# EAGLE library part WM8731 (library Oles komponentbibliotek)
Low power stereo CODEC with an integrated headphone driver.
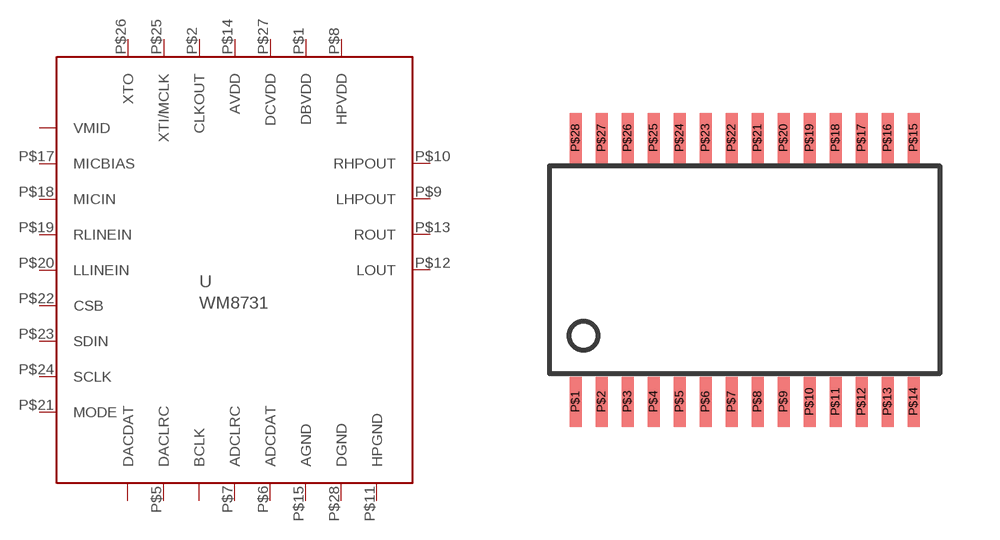
[diagram p54: symbol with the pads of SSOP28; footprint SSOP28]

Designator prefix -

## WM8731  [SSOP28]
P$1  DBVDD  pwr
P$2  CLKOUT  out
P$3  BCLK
P$4  DACDAT  in
P$5  DACLRC
P$6  ADCDAT  out
P$7  ADCLRC
P$8  HPVDD  pwr
P$9  LHPOUT  out
P$10  RHPOUT  out
P$11  HPGND  pwr
P$12  LOUT  out
P$13  ROUT  out
P$14  AVDD  pwr
P$15  AGND  pwr
P$16  VMID  pwr
P$17  MICBIAS  in
P$18  MICIN  in
P$19  RLINEIN  in
P$20  LLINEIN  in
P$21  MODE  in
P$22  CSB  in
P$23  SDIN
P$24  SCLK
P$25  XTI/MCLK  in
P$26  XTO  out
P$27  DCVDD  pwr
P$28  DGND  pwr

## Footprint SSOP28 (pad centres in mm)
smd 0.3 x 1.25: P$1 -4.55,-3.3; P$2 -3.9,-3.3; P$3 -3.25,-3.3; P$4 -2.6,-3.3; P$5 -1.95,-3.3; P$6 -1.3,-3.3; P$7 -0.65,-3.3; P$8 0,-3.3; P$9 0.65,-3.3; P$10 1.3,-3.3; P$11 1.95,-3.3; P$12 2.6,-3.3; P$13 3.25,-3.3; P$14 3.9,-3.3; P$15 3.9,3.3; P$16 3.25,3.3; P$17 2.6,3.3; P$18 1.95,3.3; P$19 1.3,3.3; P$20 0.65,3.3; P$21 0,3.3; P$22 -0.65,3.3; P$23 -1.3,3.3; P$24 -1.95,3.3; P$25 -2.6,3.3; P$26 -3.25,3.3; P$27 -3.9,3.3; P$28 -4.55,3.3